# EAGLE library part ML4622CS (library opto-micro-linear)
FIBER OPTIC DATA QUANTIZER
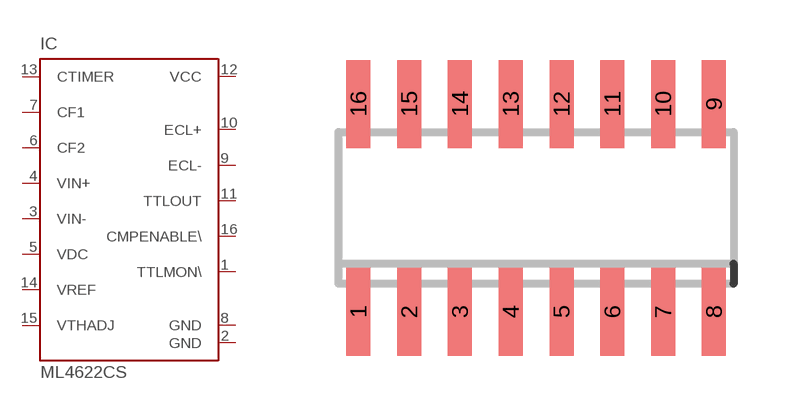
[diagram p1: symbol with the pads of SO16; footprint SO16]

Designator prefix IC

## ML4622CS  [SO16]
1  TTLMON\  out
2  GND  pwr
3  VIN-  in
4  VIN+  in
5  VDC  pas
6  CF2  pas
7  CF1  pas
8  GND  pwr
9  ECL-  out
10  ECL+  out
11  TTLOUT  out
12  VCC  pwr
13  CTIMER  pas
14  VREF  in
15  VTHADJ  in
16  CMPENABLE\  in

## Footprint SO16 (pad centres in mm)
Small Outline package 150 mil
smd 0.6 x 2.2: 1 -4.445,-2.6; 2 -3.175,-2.6; 3 -1.905,-2.6; 4 -0.635,-2.6; 5 0.635,-2.6; 6 1.905,-2.6; 7 3.175,-2.6; 8 4.445,-2.6; 9 4.445,2.6; 10 3.175,2.6; 11 1.905,2.6; 12 0.635,2.6; 13 -0.635,2.6; 14 -1.905,2.6; 15 -3.175,2.6; 16 -4.445,2.6